# Altium schematic symbol library CAP.SchLib: 163 symbols (part 2 of 2)
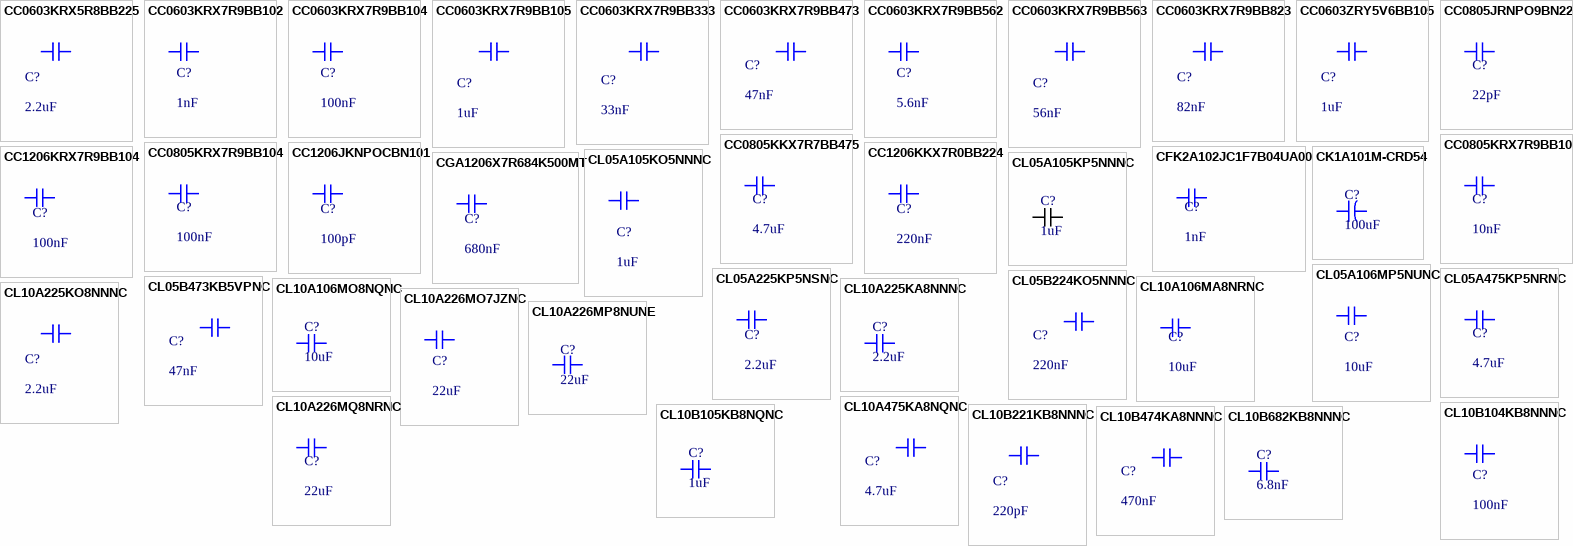
[diagram p5: symbols CC0603KRX5R8BB225 to CL10B682KB8NNNC]

## CL10B682KB8NNNC
designator C?, comment 6.8nF
6.8nF ±10% 50V Ceramic Capacitor X7R 0603; Manufacturer: Samsung Electro-Mechanics; Mfr.Part #: CL10B682KB8NNNC; Package: 0603; LCSC Part #: C84723; DigiKey Part Number: 1276-1185-2-ND; ComponentLink1Description: Link; ComponentLink1URL: https://www.lcsc.com/product-detail/C84723.html?s_z=n_CL10B682KB; ComponentLink2Description: Link 1; ComponentLink2URL: https://www.digikey.com/en/products/detail/samsung-electro-mechanics/CL10B682KB8NNNC/3886843?s=N4IgTCBcDaIMIBkCMAGAQgNgBxgNJqwDli4QBdAXyA
footprint CAP-0603
pins: 1, 2

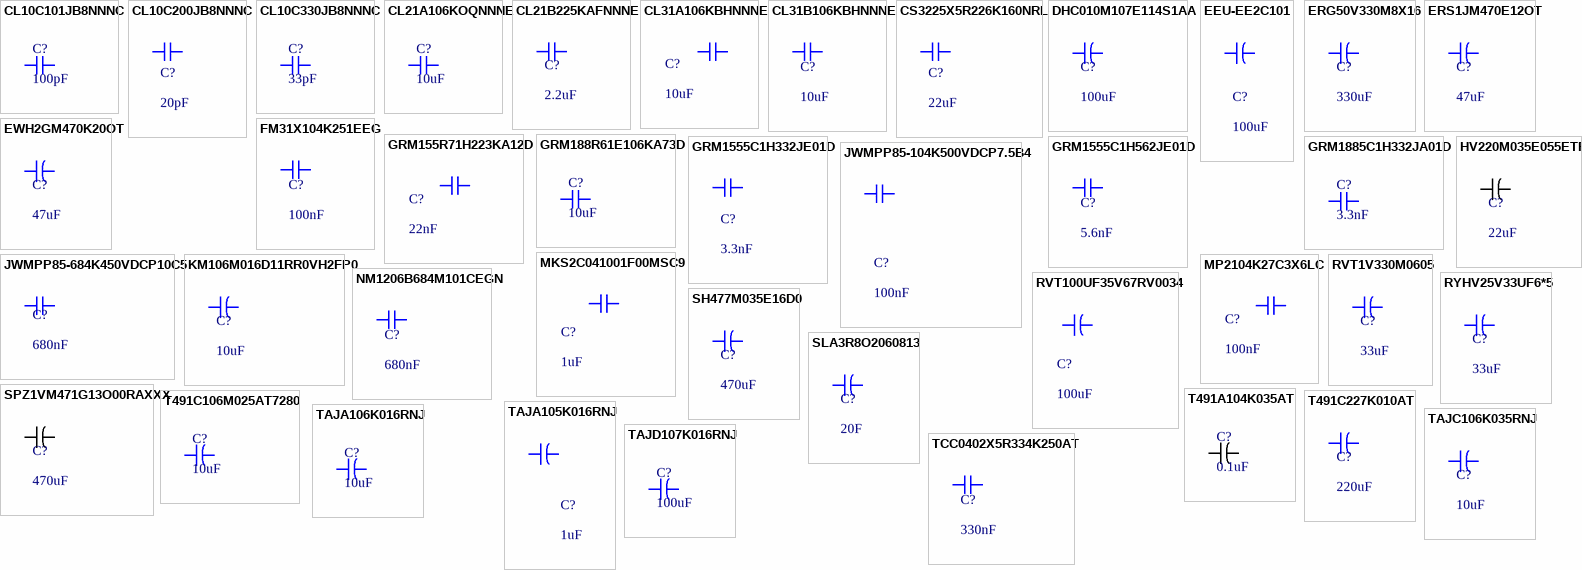
[diagram p3: symbols CL10C101JB8NNNC to TCC0402X5R334K250AT]

## CL10C101JB8NNNC
designator C?, comment 100pF
100pF ±5% 50V Ceramic Capacitor C0G 0603; Manufacturer: Samsung Electro-Mechanics; Mfr.Part #: CL10C101JB8NNNC; Package: 0603; LCSC Part #: C14858; DigiKey Part Number: 1276-1008-2-ND; ComponentLink1Description: Link; ComponentLink1URL: https://www.lcsc.com/product-detail/C14858.html?s_z=n_CL10C101JBNNNC; ComponentLink2Description: Link 1; ComponentLink2URL: https://www.digikey.com/en/products/detail/samsung-electro-mechanics/CL10C101JB8NNNC/3886666?s=N4IgTCBcDaIMIBkCMAGOqkCkBCAOAcoXCALoC%2BQA
footprint CAP-0603
pins: 1, 2

## CL10C200JB8NNNC
designator C?, comment 20pF
20pF ±5% 50V Ceramic Capacitor C0G 0603; Manufacturer: Samsung Electro-Mechanics; Mfr.Part #: CL10C200JB8NNNC; Package: 0603; LCSC Part #: C1648; DigiKey Part Number: 1276-1187-2-ND; ComponentLink1Description: Link; ComponentLink1URL: https://www.lcsc.com/product-detail/C1648.html?s_z=n_20pf; ComponentLink2Description: Link 1; ComponentLink2URL: https://www.digikey.com/en/products/detail/samsung-electro-mechanics/CL10C200JB8NNNC/3886845?s=N4IgTCBcDaIMIBkCMAGOYUoFICEAcAckXCALoC%2BQA
footprint CAP-0603
pins: 1, 2

## CL10C330JB8NNNC
designator C?, comment 33pF
33pF ±5% 50V Ceramic Capacitor C0G 0603; Manufacturer: Samsung Electro-Mechanics; Mfr.Part #: CL10C330JB8NNNC; Package: 0603; LCSC Part #: C1663; DigiKey Part Number: 1276-1070-2-ND; ComponentLink1Description: Link; ComponentLink1URL: https://www.lcsc.com/product-detail/C1663.html?s_z=n_CL10C330JB; ComponentLink2Description: Link 1; ComponentLink2URL: https://www.digikey.com/en/products/detail/samsung-electro-mechanics/CL10C330JB8NNNC/3886728?s=N4IgTCBcDaIMIBkCMAGOBmdKBSAhAHAHLFwgC6AvkA
footprint CAP-0603
pins: 1, 2

## CL21A106KOQNNNE
designator C?, comment 10uF
10uF ±10% 16V Ceramic Capacitor X5R 0805; Manufacturer: Samsung Electro-Mechanics; Mfr.Part #: CL21A106KOQNNNE; Package: 0805; LCSC Part #: C1713; DigiKey Part Number: 1276-1096-2-ND; ComponentLink1Description: Link; ComponentLink1URL: https://www.lcsc.com/product-detail/C1713.html?s_z=n_CL21A106KOQNNNE; ComponentLink2Description: Link 1; ComponentLink2URL: https://www.digikey.com/en/products/detail/samsung-electro-mechanics/CL21A106KOQNNNE/3886754?s=N4IgTCBcDaIMIBkwEYCCyAMA2A0geQEUA5EgURAF0BfIA
footprint CAP-0805-1
pins: 1, 2

## CL21B225KAFNNNE
designator C?, comment 2.2uF
2.2uF ±10% 25V Ceramic Capacitor X7R 0805; Manufacturer: Samsung Electro-Mechanics; Mfr.Part #: CL21B225KAFNNNE; Package: 0805; LCSC Part #: C19110; DigiKey Part Number: 1276-2954-2-ND; ComponentLink1Description: Link; ComponentLink1URL: https://www.lcsc.com/product-detail/C19110.html; ComponentLink2Description: Link 1; ComponentLink2URL: https://www.digikey.com/en/products/detail/samsung-electro-mechanics/CL21B225KAFNNNE/3888612?s=N4IgTCBcDaIMIBkwEYBCYwFYDSBBAYgHLECiIAugL5A
footprint CAP-0805
footprint CAP-0805-1
pins: 1, 2

## CL31A106KBHNNNE
designator C?, comment 10uF
50V 10uF X5R ±10% 1206 Ceramic Capacitors ROHS; Manufacturer: Samsung Electro-Mechanics; Mfr.Part #: CL31A106KBHNNNE; Package: 1206; LCSC Part #: C13585; DigiKey Part Number: 1276-2876-2-ND; ComponentLink1Description: Link; ComponentLink1URL: https://www.lcsc.com/product-detail/C13585.html?s_z=n_CL31A106KBHNNNE; ComponentLink2Description: Link 1; ComponentLink2URL: https://www.digikey.com/en/products/detail/samsung-electro-mechanics/CL31A106KBHNNNE/3888534?s=N4IgTCBcDaIIxgOwDYC0YAcL2oHIBEQBdAXyA
footprint CAP-1206
footprint CAP-1206 - 1
pins: 1, 2

## CL31B106KBHNNNE
designator C?, comment 10uF
10uF ±10% 50V Ceramic Capacitor X7R 1206; Manufacturer: Samsung Electro-Mechanics; Mfr.Part #: CL31B106KBHNNNE; Package: 1206; LCSC Part #: C89632; DigiKey Part Number: 1276-6767-2-ND; ComponentLink1Description: Link; ComponentLink1URL: https://www.lcsc.com/product-detail/C89632.html?s_z=n_cl31b106kbhnnne&spm=wm.ssy.bg.0.xh&lcsc_vid=FAdbA1BQFQNeV1UEFlgLA1FWRVFXUVBeEwJXVAFQRVUxVlNRQ1NbXlZSRVRcVTsOAxUeFF5JWBYZEEoKFBINSQcJGk4dAgUUFAk%3D; ComponentLink2Description: Link 1; ComponentLink2URL: https://www.digikey.com/en/products/detail/samsung-electro-mechanics/CL31B106KBHNNNE/5961251?s=N4IgTCBcDaIMIBkDMBGAQigDANgNJoAkA5EgURAF0BfIA
footprint CAP-1206 - 1
pins: 1, 2

## CS3225X5R226K160NRL
designator C?, comment 22uF
22uF ±10% 16V Ceramic Capacitor X5R 1210; Manufacturer: SAMWHA; Mfr.Part #: CS3225X5R226K160NRL; Package: 1210; LCSC Part #: C2918506; DigiKey Part Number: NO; ComponentLink1Description: Link; ComponentLink1URL: https://www.lcsc.com/product-detail/C2918506.html?s_z=n_cs3225x5r226k260nrl
footprint CAP-1210
pins: 1, 2

## DHC010M107E114S1AA
designator C?, comment 100uF
100uF 10V Aluminum Electrolytic Capacitors Through Hole,D6.3xL11mm; Manufacturer: KNSCHA; Mfr.Part #: DHC010M107E114S1AA; Package: Through Hole,D6.3xL11mm; LCSC Part #: C46550689; DigiKey Part Number: NO; ComponentLink1Description: Link; ComponentLink1URL: https://www.lcsc.com/product-detail/C46550689.html?s_z=n_DHC010M107E114S1AA; ComponentLink2Description: Link 1
footprint PLUGIN,D6.3xL11mm
pins: 1, 2

## EEU-EE2C101
designator C?, comment 100uF
100 µF 160 V Aluminum Electrolytic Capacitors Radial, Can 10000 Hrs @ 105°C; Manufacturer: Panasonic Electronic Components; Mfr.Part #: EEU-EE2C101; Package: Plugin,D12.5xL27mm; DigiKey Part Number: P13622-ND
footprint CAP-0603
pins: 1, 2

## ERG50V330M8X16
designator C?, comment 330uF
±20% 50V 330uF 70mΩ@100KHz Through Hole,D8xL16mm Aluminum Electrolytic Capacitors RoHS; Manufacturer: JIERR; Mfr.Part #: ERG50V330M8X16; Package: Through Hole,D8xL16mm; LCSC Part #: C51904473; DigiKey Part Number: NO; ComponentLink1Description: Link; ComponentLink1URL: https://www.lcsc.com/product-detail/C51904473.html
footprint Plugin,D8xL16mm
pins: 1, 2

## ERS1JM470E12OT
designator C?, comment 47uF
47uF 63V Aluminum Electrolytic Capacitors Through Hole,D6.3xL12mm 5000hrs@105℃; Manufacturer: AISHI; Mfr.Part #: ERS1JM470E12OT; Package: Through Hole,D6.3xL12mm; LCSC Part #: C106674; DigiKey Part Number: NO; ComponentLink1Description: Link; ComponentLink1URL: https://www.lcsc.com/product-detail/C106674.html?s_z=n_C106674; ComponentLink2Description: Link 1
footprint PLUGIN,D6.3xL12mm
footprint PLUGIN,D6.3xL12mm-SIDE
pins: 1, 2

## EWH2GM470K20OT
designator C?, comment 47uF
47uF 400V Aluminum Electrolytic Capacitors Through Hole,D13xL20mm 2000hrs@105℃; Manufacturer: AISHI; Mfr.Part #: EWH2GM470K20OT; Package: Through Hole,D13xL20mm; LCSC Part #: C2832322; DigiKey Part Number: NO; ComponentLink1Description: Link; ComponentLink1URL: https://www.lcsc.com/product-detail/C2832322.html; ComponentLink2Description: Link 1
footprint Plugin,D13xL20mm
pins: 1, 2

## FM31X104K251EEG
designator C?, comment 100nF
100nF ±10% 250V Ceramic Capacitor X7R 1206; Manufacturer: PSA; Mfr.Part #: FM31X104K251EEG; Package: 1206; LCSC Part #: C365814; DigiKey Part Number: 5440-FM31X104K251EEGTR-ND; ComponentLink1Description: Link; ComponentLink1URL: https://www.lcsc.com/product-detail/C365814.html; ComponentLink2Description: Link 1; ComponentLink2URL: https://www.digikey.com/en/products/detail/prosperity-dielectrics-co-ltd/FM31X104K251EEG/22081308?s=N4IgTCBcDaIGIFkDMBGAGigDAFgNJgFYUBRYgcRAF0BfIA
footprint CAP-1206 - 1
pins: 1, 2

## GRM155R71H223KA12D
designator C?, comment 22nF
50V 22nF X7R ±10% 0402 Ceramic Capacitors RoHS; Manufacturer: muRata; Mfr.Part #: GRM155R71H223KA12D; Package: 0402; LCSC Part #: C77023; DigiKey Part Number: 490-3884-2-ND
footprint CAP-0402
pins: 1, 2

## GRM188R61E106KA73D
designator C?, comment 10uF
10uF ±10% 25V Ceramic Capacitor X5R 0603; Manufacturer: muRata; Mfr.Part #: GRM188R61E106KA73D; Package: 0603; LCSC Part #: C344022; DigiKey Part Number: 490-18214-2-ND; ComponentLink1Description: Link; ComponentLink1URL: https://www.lcsc.com/product-detail/C344022.html?s_z=n_c344022; ComponentLink2Description: Link 1; ComponentLink2URL: https://www.digikey.com/en/products/detail/murata-electronics/GRM188R61E106KA73D/9867922?s=N4IgTCBcDaIOICUCyBGAHGhA2FBRFADFgNICCA7AMwAiIAugL5A
footprint CAP-0603
pins: 1, 2

## GRM1555C1H332JE01D
designator C?, comment 3.3nF
50V 3.3nF C0G ±5% 0402 Multilayer Ceramic Capacitors MLCC - SMD/SMT ROHS; Manufacturer: muRata; Mfr.Part #: GRM1555C1H332JE01D; Package: 0402; LCSC Part #: C1518207
footprint CAP-0402
pins: 1, 2

## GRM1555C1H562JE01D
designator C?, comment 5.6nF
50V 5.6nF C0G ±5% 0402 Ceramic Capacitors ROHS; Manufacturer: muRata; Mfr.Part #: GRM1555C1H562JE01D; Package: 0402; LCSC Part #: C2976066
footprint CAP-0402
pins: 1, 2

## GRM1885C1H332JA01D
designator C?, comment 3.3nF
3.3nF ±5% 50V Ceramic Capacitor C0G 0603; Manufacturer: muRata; Mfr.Part #: GRM1885C1H332JA01D; Package: 0603; LCSC Part #: C77036; DigiKey Part Number: 490-6385-2-ND; ComponentLink1Description: Link; ComponentLink1URL: https://www.lcsc.com/product-detail/C77036.html?s_z=n_3.3NF; ComponentLink2Description: Link 1; ComponentLink2URL: https://www.digikey.com/en/products/detail/murata-electronics/GRM1885C1H332JA01D/2611161?s=N4IgTCBcDaIOICUCyBGAHGgrAYRQCQGYCwApAQQAYUAREAXQF8g
footprint CAP-0603
pins: 1, 2

## HV220M035E055ETR
designator C?, comment 22uF
22uF 35V ±20% SMD,D6.3xL5.5mm Aluminum Electrolytic Capacitors - SMD ROHS; Manufacturer: Capxon International Elec; Mfr.Part #: HV220M035E055ETR; Package: SMD,D6.3xL5.5mm
footprint SMD,D6.3xL5.5mm
pins: 1, 2

## JWMPP85-104K500VDCP7.5B4
designator C?, comment 100nF
±10% 500V 100nF -40℃~+110℃ Metallized Polypropylene Through Hole,P=7.5mm Film Capacitors ROHS; Manufacturer: JURCC; Mfr.Part #: JWMPP85-104K500VDCP7.5B4; Package: Through Hole,P=7.5mm; LCSC Part #: C47279063
footprint Through Hole, P=7.5mm, L=9.5mm, W=5mm, H=11mm
pins: 1, 2

## JWMPP85-684K450VDCP10C5
designator C?, comment 680nF
±10% 450V 680nF -40℃~+110℃ Metallized Polypropylene Through Hole,P=10mm Film Capacitors ROHS; Manufacturer: JURCC; Mfr.Part #: JWMPP85-684K450VDCP10C5; Package: Through Hole,P=10mm; LCSC Part #: C47279135
footprint Through Hole, P=10mm, L=12mm, W=7.6mm, H=13.5mm
pins: 1, 2

## KM106M016D11RR0VH2FP0
designator C?, comment 10uF
10uF 16V Aluminum Electrolytic Capacitors Through Hole,D5xL11mm 1000hrs@105℃; Manufacturer: Chengx; Mfr.Part #: KM106M016D11RR0VH2FP0; Package: Through Hole,D5xL11mm; LCSC Part #: C43799; DigiKey Part Number: NO; ComponentLink1Description: Link; ComponentLink1URL: https://www.lcsc.com/product-detail/C43799.html; ComponentLink2Description: Link 1
footprint PLUGIN,D5xL11mm
pins: 1, 2

## MKS2C041001F00MSC9
designator C?, comment 1uF
1uF 63V ±20% Film Capacitors RoHS; Manufacturer: WIMA; Mfr.Part #: MKS2C041001F00MSC9; Package: Through Hole; LCSC Part #: C19836419; DigiKey Part Number: 1928-MKS2C041001F00MSC9-ND; ComponentLink1Description: Link; ComponentLink1URL: https://www.lcsc.com/product-detail/C19836419.html?s_z=n_MKS2C041001F00MSC9; ComponentLink2Description: Link 1; ComponentLink2URL: https://www.digikey.com/en/products/detail/wima/MKS2C041001F00MSC9/19123173
footprint Through Hole, P=5mm, L=7.2mm, W=5mm, H=10mm
pins: 1, 2

## MP2104K27C3X6LC
designator C?, comment 100nF
275V 100nF X2 ±10% Through Hole,P=10mm Ceramic Capacitors RoHS; Manufacturer: SRD; Mfr.Part #: MP2104K27C3X6LC; Package: Through Hole,P=10mm; LCSC Part #: C105759; DigiKey Part Number: NO
footprint Through Hole, P=10mm, L=13mm, W=6mm, H=12mm
pins: 1, 2

## NM1206B684M101CEGN
designator C?, comment 680nF
680nF ±20% 100V Ceramic Capacitor X7R 1206; Manufacturer: HUI JU; Mfr.Part #: NM1206B684M101CEGN; Package: 1206; LCSC Part #: C840130; DigiKey Part Number: NO
footprint CAP-1206 - 1
pins: 1, 2

## RVT1V330M0605
designator C?, comment 33uF
33uF 35V 41mA@120Hz ±20% SMD,D6.3xL5.4mm Aluminum Electrolytic Capacitors - SMD ROHS; Manufacturer: ROQANG; Mfr.Part #: RVT1V330M0605; Package: SMD,D6.3xL5.4mm; LCSC Part #: C72508
footprint SMD,D6.3xL5.5mm
pins: 1, 2

## RVT100UF35V67RV0034
designator C?, comment 100uF
100uF ±20% 35V Aluminum Electrolytic Capacitors 2000hrs@105℃; Manufacturer: KNSCHA; Mfr.Part #: RVT100UF35V67RV0034; Package: SMD,D6.3xL7.7mm; LCSC Part #: C2836442; DigiKey Part Number: NO
footprint SMD,D6.3xL7.7mm
pins: 1, 2

## RYHV25V33UF6*5
designator C?, comment 33uF
25V 33uF ±20% SMD,D6.3xL5.8mm Aluminum - Polymer Capacitors RoHS; Manufacturer: Honor Elec; Mfr.Part #: RYHV25V33UF6*5; Package: SMD,D6.3xL5.8mm; LCSC Part #: C48970651; DigiKey Part Number: NO; ComponentLink1Description: Link; ComponentLink2Description: Link 1; ComponentLink2URL: https://www.digikey.com/en/products/detail/panasonic-electronic-components/20TQC100MYF/4204835?s=N4IgTCBcDa4AwBUCKBhAjHOBZAmgMRAF0BfIA
footprint SMD,D6.3xL5.8mm
pins: 1, 2

## SH477M035E16D0
designator C?, comment 470uF
35V 470uF ±20% 2.9A@100kHz Through Hole,D6.3xL16mm Polymer Aluminum Capacitors ROHS; Manufacturer: SHENGYANG; Mfr.Part #: SH477M035E16D0; Package: Through Hole,D6.3xL16mm; LCSC Part #: C44606523
footprint PLUGIN,D6.3xL16mm
pins: 1, 2

## SLA3R8O2060813
designator C?, comment 20F
20F 3.8V 500mΩ -10%~+30% Through Hole,P=3.5mm Electric Double Layer Capacitors (EDLC), Supercapacitors RoHS; Manufacturer: Ymin; Mfr.Part #: SLA3R8O2060813; Package: Through Hole,P=3.5mm; LCSC Part #: C970391; DigiKey Part Number: NO; ComponentLink1Description: Link; ComponentLink1URL: https://www.lcsc.com/product-detail/C970391.html; ComponentLink2Description: Link 1
footprint Plugin,D8xL13mm
pins: 1, 2

## SPZ1VM471G13O00RAXXX
designator C?, comment 470uF
35V 470uF ±20% Through Hole,D10xL13mm Polymer Aluminum Capacitors ROHS; Manufacturer: AISHI; Mfr.Part #: SPZ1VM471G13O00RAXXX; Package: Through Hole,D10xL13mm; LCSC Part #: C2691847
footprint SMD,D6.3xL5.5mm
pins: 1, 2

## T491A104K035AT
designator C?, comment 0.1uF
100nF 35V 20Ω@100kHz ±10% CASE-A-3216-18(mm) Tantalum Capacitors ROHS / Higher voltage ratings and tighter tolerance product including ESR may be substituted within the same size at KEMET's option. Voltage substitution will be marked with the higher voltage rating. Substitutions can include better than series.; Mfr.Part #: T491A104K035AT; Manufacturer: KEMET; Package: CASE-A-3216-18(mm); LCSC Part #: C122257
footprint CASE-A-3216-18(mm)
pins: 1, 2

## T491C106M025AT7280
designator C?, comment 10uF
10 µF Molded Tantalum Capacitors 25 V 2312 (6032 Metric) 1.5Ohm; Mfr.Part #: T491C106M025AT7280; Manufacturer: KEMET; Package: 6032; DigiKey Part Number: 399-10160-2-ND
footprint CASE-C-6032
pins: 1, 2

## T491C227K010AT
designator C?, comment 220uF
220uF 10V 900mΩ@100kHz ±10% CASE-C-6032-28(mm) Tantalum Capacitors RoHS / Higher voltage ratings and tighter tolerance product including ESR may be substituted within the same size at KEMET's option. Voltage substitution will be marked with the higher voltage rating. Substitutions can include better than series.; Manufacturer: KEMET; Mfr.Part #: T491C227K010AT; Package: CASE-C-6032-28(mm); LCSC Part #: C122293; DigiKey Part Number: 399-18059-2-ND
footprint CASE-C-6032
pins: 1, 2

## TAJA105K016RNJ
designator C?, comment 1uF
1uF 16V 11Ω ±10% CASE-A-3216-18(mm) Tantalum Capacitors ROHS; Mfr.Part #: TAJA105K016RNJ; Manufacturer: Kyocera AVX; Package: CASE-A-3216-18(mm); DigiKey Part Number: 478-1649-2-ND; LCSC Part #: C7174
footprint CASE-A-3216-18(mm)
footprint CASE-A-3216-18(mm) - 1
pins: 1, 2

## TAJA106K016RNJ
designator C?, comment 10uF
10uF 16V 3Ω@100kHz ±10% CASE-A-3216-18(mm) Tantalum Capacitors ROHS; Manufacturer: Kyocera AVX; Mfr.Part #: TAJA106K016RNJ; Package: CASE-A-3216-18(mm); LCSC Part #: C7171; DigiKey Part Number: 478-1655-2-ND
footprint CASE-A-3216-18(mm) - 1
pins: 1, 2

## TAJC106K035RNJ
designator C?, comment 10uF
10uF 35V 1.6Ω@100kHz ±10% CASE-C-6032-28(mm) Tantalum Capacitors RoHS; Manufacturer: Kyocera AVX; Mfr.Part #: TAJC106K035RNJ; Package: CASE-C-6032-28(mm); LCSC Part #: C7211; DigiKey Part Number: 478-1701-2-ND
footprint CASE-C-6032
pins: 1, 2

## TAJD107K016RNJ
designator C?, comment 100uF
100uF 16V 600mΩ@100kHz ±10% CASE-D-7343 Tantalum Capacitors ROHS; Mfr.Part #: TAJD107K016RNJ; Manufacturer: Kyocera AVX; Package: CASE-D-7343-31(mm); LCSC Part #: C7223; DigiKey Part Number: 478-1723-2-ND; ComponentLink1Description: Link; ComponentLink1URL: https://www.lcsc.com/product-detail/C7223.html?s_z=n_TAJD107K016RNJ&spm=wm.ssy.bg.0.xh&lcsc_vid=QwdcUVxUFAdbVwUFRQBWBVECTlNYX1QAQFddU1EFQ1kxVlNRQ1NeVFFeTlFdUjsOAxUeFF5JWBYZEEoKFBINSQcJGk4NBhADEA4cHktQTlVADxALGw%3D%3D; ComponentLink2Description: Link 1; ComponentLink2URL: https://www.digikey.com/en/products/detail/kyocera-avx/TAJD107K016RNJ/563828
footprint CASE-D-7343
pins: 1, 2

## TCC0402X5R334K250AT
designator C?, comment 330nF
330nF ±10% 25V Ceramic Capacitor X5R 0402; Manufacturer: CCTC; Mfr.Part #: TCC0402X5R334K250AT; Package: 0402; LCSC Part #: C5448882; DigiKey Part Number: NO; ComponentLink1Description: Link lcsc; ComponentLink1URL: https://www.lcsc.com/product-detail/C5448882.html
footprint CAP-0402
pins: 1, 2

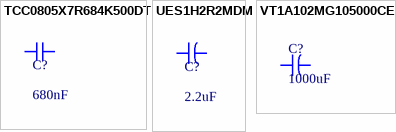
[diagram p4: symbols TCC0805X7R684K500DT to VT1A102MG105000CE0]

## TCC0805X7R684K500DT
designator C?, comment 680nF
680nF ±10% 50V Ceramic Capacitor X7R 0805; Manufacturer: CCTC; Mfr.Part #: TCC0805X7R684K500DT; Package: 0805; LCSC Part #: C282780; DigiKey Part Number: NO; ComponentLink1Description: Link; ComponentLink1URL: https://www.lcsc.com/product-detail/C282780.html?s_z=n_680NF; ComponentLink2Description: Link 1; ComponentLink2URL: *
footprint CAP-0805-1
pins: 1, 2

## UES1H2R2MDM
designator C?, comment 2.2uF
±20% 50V 2.2uF Through Hole,D5xL11mm Aluminum Electrolytic Capacitors RoHS; Manufacturer: Nichicon; Mfr.Part #: UES1H2R2MDM; Package: Through Hole,D5xL11mm; LCSC Part #: C1580405; DigiKey Part Number: 493-15037-ND; ComponentLink1Description: Link; ComponentLink1URL: https://www.lcsc.com/product-detail/C1580405.html?s_z=n_UES1H2R2MDM&spm=wm.ssy.bg.0.xh&lcsc_vid=QVhYA1deElkMBVEAQVVWVAECEVVXUAcCTgNYUQVSEVAxVlNRQ1FYVlVRRFlcVTsOAxUeFF5JWBYZEEoKFBINSQcJGk4dEhQWGwgLFQ%3D%3D; ComponentLink2Description: Link 1; ComponentLink2URL: https://www.digikey.com/en/products/detail/nichicon/UES1H2R2MDM/2597903
footprint PLUGIN,D5xL11mm
pins: 1, 2

## VT1A102MG105000CE0
designator C?, comment 1000uF
1000uF ±20% 10V Aluminum Electrolytic Capacitors 1000hrs@105℃; Manufacturer: huawei group; Mfr.Part #: VT1A102MG105000CE0; Package: SMD,D10xL10.5mm; LCSC Part #: C190288; DigiKey Part Number: NO; Link: https://www.lcsc.com/product-detail/C190288.html?s_z=n_VT1A102MG105000CE0
footprint SMD,D10xL10.5mm
pins: 1, 2